# Altium footprint library WE-ExB.PcbLib: 1 footprints
Each footprint in its own frame and in the unit in brackets; x right, y up, seen from the top. Pads: shape width x height; smd on the part's side, far side on the other; paste and mask are expansions set on the pad; w line width, h text height; cw(c..) or ccw(c..) is an arc to the next point about the centre after c.
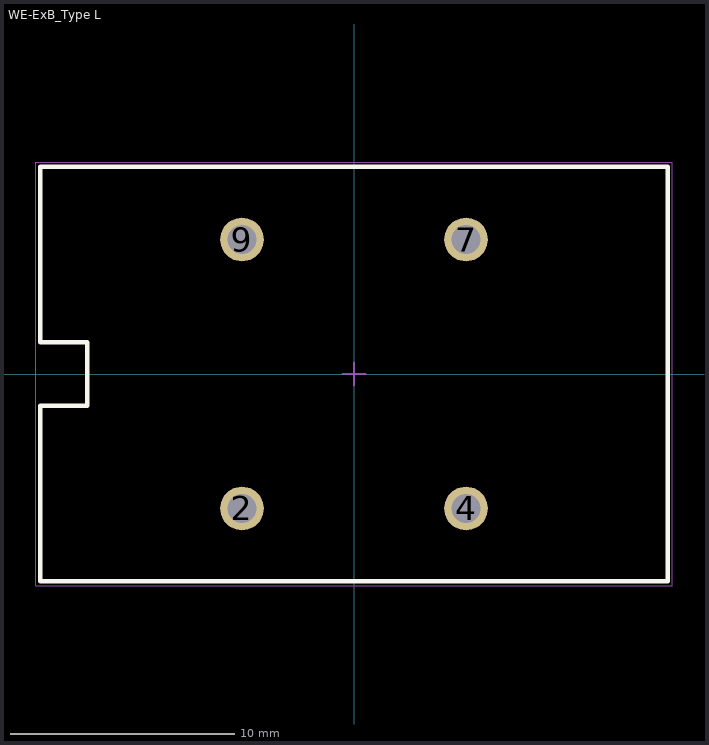
[diagram p0: the footprint, top view; thin cyan lines are the x and y axes]

## WE-ExB_Type L [mm] "Common Mode Power Line Choke, 4-Leads, body 28x18.5mm"
height 33
pads (4):
  round 1.95 hole 1.3: 2(-5,-6) 4(5,-6) 7(5,6) 9(-5,6)
Top Overlay:
  lines w0.2: -14,-9.25 14,-9.25 14,9.25 -14,9.25 -14,1.425 -11.9,1.425 -11.9,-1.425 -14,-1.425 -14,-9.25
Top Assembly:
  lines w0.1: -14,-9.25 -14,-1.425 -11.9,-1.425 -11.9,1.425 -14,1.425 -14,9.25 14,9.25 14,-9.25 -14,-9.25
Top Designator:
  text ".Designator" at -3.647,-0.357 h1
Top 3D Body:
  lines w0.1: -14,-9.25 -14,-1.425 -11.9,-1.425 -11.9,1.425 -14,1.425 -14,9.25 14,9.25 14,-9.25 -14,-9.25
Top Courtyard:
  lines w0.05: -14.2,-9.45 14.2,-9.45 14.2,9.45 -14.2,9.45 -14.2,-9.45
Top Component Center:
  lines w0.1: -0.5,0 0.5,0 ; 0,-0.5 0,0.5
3D body "744844xxx.stp": height 27.8, standoff -5.2, extent -12.1,-8.5 12.1,8.5